# Altium schematic symbol library Reference_Current.SchLib: 12 symbols
Pins are listed as number, name and electrical type; pins without a type are passive.

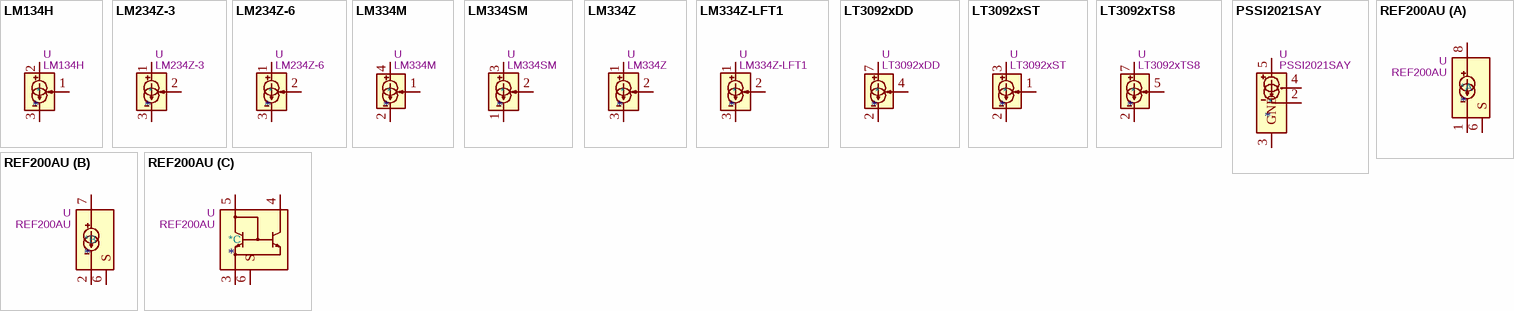
[diagram p0: symbols LM134H to REF200AU]

## LM134H
designator *  value LM134H  Reference: U
ki_keywords: Adjustable Current Source 10mA; ki_description: 1μA to 10mA 3-Terminal Adjustable Current Source, TO-46; ki_fp_filters: TO?46*; Footprint: Package_TO_SOT_THT:TO-46-3; Datasheet: http://www.ti.com/lit/ds/symlink/lm134.pdf
pins: 1, 2, 3

## LM234Z-3
designator *  value LM234Z-3  Reference: U
ki_keywords: Adjustable Current Source 10mA; ki_description: 1μA to 10mA 3-Terminal Adjustable Current Source, TO-92; ki_fp_filters: TO*92*Inline*; Footprint: Package_TO_SOT_THT:TO-92_Inline; Datasheet: http://www.ti.com/lit/ds/symlink/lm134.pdf
pins: 1, 2, 3

## LM234Z-6
designator *  value LM234Z-6  Reference: U
ki_keywords: Adjustable Current Source 10mA; ki_description: 1μA to 10mA 3-Terminal Adjustable Current Source, TO-92; ki_fp_filters: TO*92*Inline*; Footprint: Package_TO_SOT_THT:TO-92_Inline; Datasheet: http://www.ti.com/lit/ds/symlink/lm134.pdf
pins: 1, 2, 3

## LM334M
designator *  value LM334M  Reference: U
ki_keywords: Adjustable Current Source 10mA; ki_description: 1μA to 10mA 3-Terminal Adjustable Current Source, SO-8; ki_fp_filters: SOIC*3.9x4.9m*P1.27mm*; Footprint: Package_SO:SOIC-8_3.9x4.9mm_P1.27mm; Datasheet: http://www.ti.com/lit/ds/symlink/lm134.pdf
pins: 1, 2, 3 hidden, 4, 6 hidden, 7 hidden

## LM334SM
designator *  value LM334SM  Reference: U
ki_keywords: Adjustable Current Source 10mA; ki_description: 1μA to 10mA 3-Terminal Adjustable Current Source, SO-8 Alternate; ki_fp_filters: SOIC*3.9x4.9m*P1.27mm*; Footprint: Package_SO:SOIC-8_3.9x4.9mm_P1.27mm; Datasheet: http://www.ti.com/lit/ds/symlink/lm134.pdf
pins: 1, 2, 3

## LM334Z
designator *  value LM334Z  Reference: U
ki_keywords: Adjustable Current Source 10mA; ki_description: 1μA to 10mA 3-Terminal Adjustable Current Source, TO-92; ki_fp_filters: TO*92*Inline*; Footprint: Package_TO_SOT_THT:TO-92_Inline; Datasheet: http://www.ti.com/lit/ds/symlink/lm134.pdf
pins: 1, 2, 3

## LM334Z-LFT1
designator *  value LM334Z-LFT1  Reference: U
ki_keywords: Adjustable Current Source 10mA; ki_description: 1μA to 10mA 3-Terminal Adjustable Current Source, TO-92; ki_fp_filters: TO*92*Inline*; Footprint: Package_TO_SOT_THT:TO-92_Inline; Datasheet: http://www.ti.com/lit/ds/symlink/lm134.pdf
pins: 1, 2, 3

## LT3092xDD
designator *  value LT3092xDD  Reference: U
ki_keywords: current source; ki_description: 200mA 2-Terminal Programmable Current Source, DFN-8; ki_fp_filters: DFN*1EP*3x3mm*P0.5mm*; Footprint: Package_DFN_QFN:DFN-8-1EP_3x3mm_P0.5mm_EP1.66x2.38mm; Datasheet: https://www.analog.com/media/en/technical-documentation/data-sheets/3092fc.pdf
pins: 1 hidden, 2, 3 NC hidden, 4, 5 NC hidden, 6 NC hidden, 7, 8 hidden, 9 hidden

## LT3092xST
designator *  value LT3092xST  Reference: U
ki_keywords: current source; ki_description: 200mA 2-Terminal Programmable Current Source, SOT-223; ki_fp_filters: SOT*223*TabPin2*; Footprint: Package_TO_SOT_SMD:SOT-223-3_TabPin2; Datasheet: https://www.analog.com/media/en/technical-documentation/data-sheets/3092fc.pdf
pins: 1, 2, 3

## LT3092xTS8
designator *  value LT3092xTS8  Reference: U
ki_keywords: current source; ki_description: 200mA 2-Terminal Programmable Current Source, TSOT-23-8; ki_fp_filters: TSOT?23*; Footprint: Package_TO_SOT_SMD:TSOT-23-8; Datasheet: https://www.analog.com/media/en/technical-documentation/data-sheets/3092fc.pdf
pins: 1 NC hidden, 2, 3 hidden, 4 hidden, 5, 6 NC hidden, 7, 8 hidden

## PSSI2021SAY
designator *  value PSSI2021SAY  Reference: U
ki_keywords: iref adjustable; ki_description: Constant current source, Io 15µA to 50mA, SOT-353; ki_fp_filters: SOT?353*; Footprint: Package_TO_SOT_SMD:SOT-353_SC-70-5; Datasheet: https://assets.nexperia.com/documents/data-sheet/PSSI2021SAY.pdf
pins: 1 NC hidden, 2, 3 GND, 4, 5

## REF200AU
designator *  value REF200AU  Reference: U
ki_keywords: Current Source/Sink 100μA; ki_description: 2x100μA Current Sources/Sinks with Current Mirror, SO-8; ki_fp_filters: SOIC*3.9x4.9mm*P1.27mm*; Footprint: Package_SO:SOIC-8_3.9x4.9mm_P1.27mm; Datasheet: www.ti.com/lit/ds/symlink/ref200.pdf
part A pins: 1, 6 S, 8
part B pins: 2, 6 S, 7
part C pins: 3, 4, 5, 6 S